# Altium footprint library Booster_Board.PcbLib: 55 footprints (part 2 of 4)
Each footprint in its own frame and in the unit in brackets; x right, y up, seen from the top. Pads: shape width x height; smd on the part's side, far side on the other; paste and mask are expansions set on the pad; w line width, h text height; cw(c..) or ccw(c..) is an arc to the next point about the centre after c.
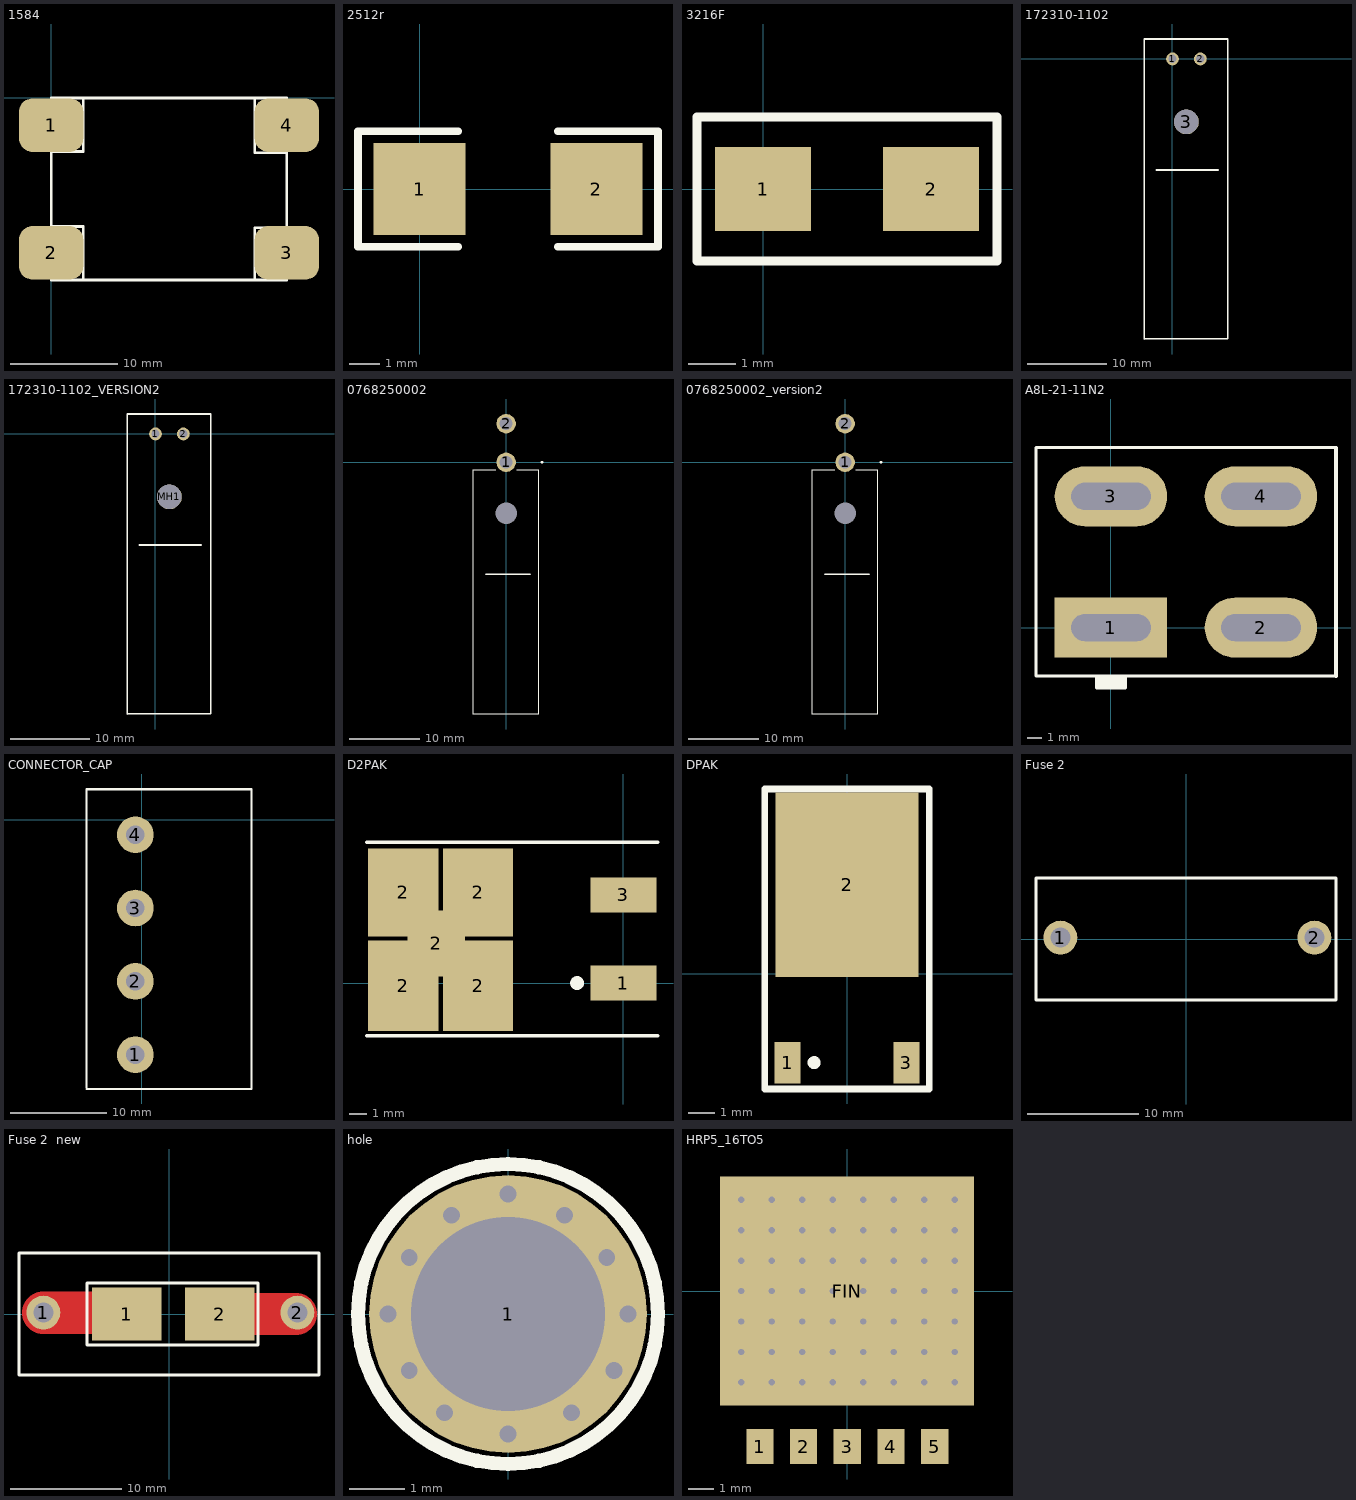
[diagram p1: the footprints below, top view; thin cyan lines are the x and y axes]

## 1584 [mm] "5V   3.3V 12V稳压模块"
pads (4):
  rrect50% 6x5 smd: 1(0,-2.54) 2(0,-14.46) 3(22,-14.46) 4(22,-2.54)
Top Overlay:
  lines w0.254: 0,-12 3,-12 3,-16.97 ; 0,-5 3,-5 3,-0.048 ; 19,-16.923 19,-12.109 22,-12.109 ; 19,-0.177 19,-5.109 22,-5.109 ; 0,-17 0,0 22,0 22,-17 0,-17

## 2512r [mil] "Chip Resistor; Body 6.3 x 3.2 mm (L"
height 23.62
pads (2):
  rect 120x120 smd: 1(0,0) 2(230,0)
Top Overlay:
  lines w10: 50,-75 -80,-75 -80,75 50,75 ; 180,-75 310,-75 310,75 180,75

## 3216F [mil] "保险丝"
pads (2):
  rect 80x70 smd: 1(0,0) 2(140,0)
Top Overlay:
  lines w7.87: 195,58.11 195,-60 -55,-60 -55,60 195,60

## 172310-1102 [mm]
pads (3):
  round 1.61 hole 1.06: 1(0,0) 2(3.5,0)
  round 3.09 hole 3.09: 3(1.75,-7.91)
Top Overlay:
  lines w0.2: -3.536,-35.165 6.929,-35.132 6.929,2.5 -3.536,2.5 -3.536,-35.165
  lines w0.254: -2.037,-13.953 5.71,-13.953

## 172310-1102_VERSION2 [mm]
pads (3):
  round 1.61 hole 1.06: 1(0,0) 2(3.5,0)
  round 3.09 hole 3.09: MH1(1.75,-7.91)
Top Overlay:
  lines w0.2: -3.536,-35.165 -3.536,2.5 6.929,2.5 6.929,-35.132 -3.536,-35.165
  lines w0.254: -2.037,-13.953 5.71,-13.953

## 0768250002 [mm]
pads (3):
  round 2.775 hole 1.85: 1(0,0) 2(0,5.5)
  round 1.525 hole 3.05: MH1(0,-7.3)
Top Overlay:
  lines w0.1: -4.675,-35.934 -4.675,-1.1 -1.5,-1.1 ; -4.675,-35.9 4.675,-35.9 4.675,-1.1 1.5,-1.1
  lines w0.2: 5.1,-0.1 ccw(c5.1,0) 5.1,0.1 ccw(c5.1,0) 5.1,-0.1
  lines w0.254: -2.912,-15.995 3.438,-15.995

## 0768250002_version2 [mm]
pads (3):
  round 2.775 hole 1.85: 1(0,0) 2(0,5.5)
  round 1.525 hole 3.05: MH1(0,-7.3)
Top Overlay:
  lines w0.1: -4.675,-35.934 -4.675,-1.1 -1.5,-1.1 ; -4.675,-35.9 4.675,-35.9 4.675,-1.1 1.5,-1.1
  lines w0.2: 5.1,-0.1 ccw(c5.1,0) 5.1,0.1 ccw(c5.1,0) 5.1,-0.1
  lines w0.254: -2.912,-15.995 3.438,-15.995

## A8L-21-11N2 [mm]
pads (4):
  rect 7.5x4 hole 1.8 slot 5.3 at 0 deg: 1(0,0)
  oval 7.5x4 hole 1.8 slot 5.3 at 0 deg: 2(10,0) 3(0,8.75) 4(10,8.75)
Top Overlay:
  rectangle: -0.953,-4.023 0.953,-3.261
  lines w0.2: -5,11.979 -5,-3.225 15,-3.225 ; -5,12 15,12 ; -0.953,-3.261 -0.953,-4.023 0.953,-4.023 0.953,-3.261
  lines w0.254: 15,-3.225 15,11.979

## cap_connector [mm]

## CONNECTOR_CAP [mil]
height 200
pads (4):
  round 150 hole 75: 1(-25,-962) 2(-25,-662) 3(-25,-362) 4(-25,-62)
Top Overlay:
  lines w10: -225,-1102.32 450,-1102.32 ; -225,-1095 -225,125 ; -225,123.31 450,123.31 ; 450,-1100 450,125

## D2PAK [mil]
height 104.33
pads (7):
  rect 150x80 smd: 1(0,0) 3(0,200)
  rect 160x205 smd: 2(-500,-6) 2(-330,-6)
  rect 160x200 smd: 2(-500,206) 2(-330,206)
  rect 130x150 smd: 2(-425,90)
Top Overlay:
  circle w15.75: c-104.92,0 r7.87
  lines w7.87: -582.95,-119.49 78.74,-119.49 ; -582.95,319.49 78.74,319.49

## DPAK [mm] "D-PAK/TO-252-AA;"
height 2.38
pads (3):
  rect 1x1.6 smd: 1(-2.285,-3.425) 3(2.285,-3.425)
  rect 5.5x7.1 smd: 2(0,3.425)
Top Overlay:
  circle w0.25: c-1.268,-3.429 r0.125
  lines w0.254: -3.175,-4.445 -3.175,-4.191 -3.175,6.809 -3.175,7.112 3.175,7.112 3.175,6.858 3.175,-4.142 3.175,-4.445 -3.175,-4.445

## Fuse 2 [mil]
pads (2):
  round 120 hole 70: 1(-445,5) 2(455,5)
Top Overlay:
  lines w10: -531.5,-216.54 -531.5,216.54 531.5,216.54 531.5,-216.54 -531.5,-216.54

## Fuse 2  new [mil]
pads (4):
  round 120 hole 70: 1(-445,5) 2(455,5)
  rect 245.67x189.37 smd: 1(-150,0) 2(179.53,0)
Top Layer:
  lines w10: -155,5 -150,0
  lines w150: -445,5 -155,5 ; 179.53,0 450,0
Top Overlay:
  lines w10: -531.5,-216.54 531.5,-216.54 531.5,216.54 -531.5,216.54 -531.5,-216.54 ; -290,-110 -290,110 315,110 315,-110 -290,-110

## hole [mm]
pads (1):
  round 5 hole 3.5: 1(0,0)
via -1.778,-1.016 diameter 0.635 hole 0.305
via -1.143,-1.778 diameter 0.635 hole 0.305
via 1.778,1.016 diameter 0.635 hole 0.305
via 1.016,1.778 diameter 0.635 hole 0.305
via -1.016,1.778 diameter 0.635 hole 0.305
via -1.778,1.016 diameter 0.635 hole 0.305
via -2.159,0 diameter 0.635 hole 0.305
via 0,2.159 diameter 0.635 hole 0.305
via 2.159,0 diameter 0.635 hole 0.305
via 1.905,-1.016 diameter 0.635 hole 0.305
via 1.143,-1.778 diameter 0.635 hole 0.305
via 0,-2.159 diameter 0.635 hole 0.305
Top Overlay:
  circle w0.254: c0,0 r2.7

## HRP5_16TO5 [mm]
pads (6):
  rect 1.07x1.37 smd: 1(-3.429,-6.125) 2(-1.709,-6.125) 3(0.011,-6.125) 4(1.731,-6.125) 5(3.451,-6.125)
  rect 10x9 smd: FIN(0,0)
via -2.965,-2.4 diameter 0.508 hole 0.254
via -4.165,-2.4 diameter 0.508 hole 0.254
via -1.765,-2.4 diameter 0.508 hole 0.254
via 0.635,-2.4 diameter 0.508 hole 0.254
via -0.565,-2.4 diameter 0.508 hole 0.254
via 4.235,-2.4 diameter 0.508 hole 0.254
via 3.035,-2.4 diameter 0.508 hole 0.254
via 1.835,-2.4 diameter 0.508 hole 0.254
via 1.835,-3.6 diameter 0.508 hole 0.254
via 3.035,-3.6 diameter 0.508 hole 0.254
via 4.235,-3.6 diameter 0.508 hole 0.254
via -0.565,-3.6 diameter 0.508 hole 0.254
via 0.635,-3.6 diameter 0.508 hole 0.254
via -1.765,-3.6 diameter 0.508 hole 0.254
via -4.165,-3.6 diameter 0.508 hole 0.254
via -2.965,-3.6 diameter 0.508 hole 0.254
via 1.835,-1.2 diameter 0.508 hole 0.254
via 3.035,-1.2 diameter 0.508 hole 0.254
via 4.235,-1.2 diameter 0.508 hole 0.254
via -0.565,-1.2 diameter 0.508 hole 0.254
via 0.635,-1.2 diameter 0.508 hole 0.254
via -1.765,-1.2 diameter 0.508 hole 0.254
via -4.165,-1.2 diameter 0.508 hole 0.254
via -2.965,-1.2 diameter 0.508 hole 0.254
via 1.835,0 diameter 0.508 hole 0.254
via 3.035,0 diameter 0.508 hole 0.254
via 4.235,0 diameter 0.508 hole 0.254
via -0.565,0 diameter 0.508 hole 0.254
via 0.635,0 diameter 0.508 hole 0.254
via -1.765,0 diameter 0.508 hole 0.254
via -4.165,0 diameter 0.508 hole 0.254
via -2.965,0 diameter 0.508 hole 0.254
via 1.835,1.2 diameter 0.508 hole 0.254
via 3.035,1.2 diameter 0.508 hole 0.254
via 4.235,1.2 diameter 0.508 hole 0.254
via -0.565,1.2 diameter 0.508 hole 0.254
via 0.635,1.2 diameter 0.508 hole 0.254
via -1.765,1.2 diameter 0.508 hole 0.254
via -4.165,1.2 diameter 0.508 hole 0.254
via -2.965,1.2 diameter 0.508 hole 0.254
via 1.835,2.4 diameter 0.508 hole 0.254
via 3.035,2.4 diameter 0.508 hole 0.254
via 4.235,2.4 diameter 0.508 hole 0.254
via -0.565,2.4 diameter 0.508 hole 0.254
via 0.635,2.4 diameter 0.508 hole 0.254
via -1.765,2.4 diameter 0.508 hole 0.254
via -4.165,2.4 diameter 0.508 hole 0.254
via -2.965,2.4 diameter 0.508 hole 0.254
via 1.835,3.6 diameter 0.508 hole 0.254
via 3.035,3.6 diameter 0.508 hole 0.254
via 4.235,3.6 diameter 0.508 hole 0.254
via -0.565,3.6 diameter 0.508 hole 0.254
via 0.635,3.6 diameter 0.508 hole 0.254
via -1.765,3.6 diameter 0.508 hole 0.254
via -4.165,3.6 diameter 0.508 hole 0.254
via -2.965,3.6 diameter 0.508 hole 0.254